# EAGLE library part CM8870C (library california-micro-devices)
CMOS Integrated DTMF Receiver cm8870.pdf
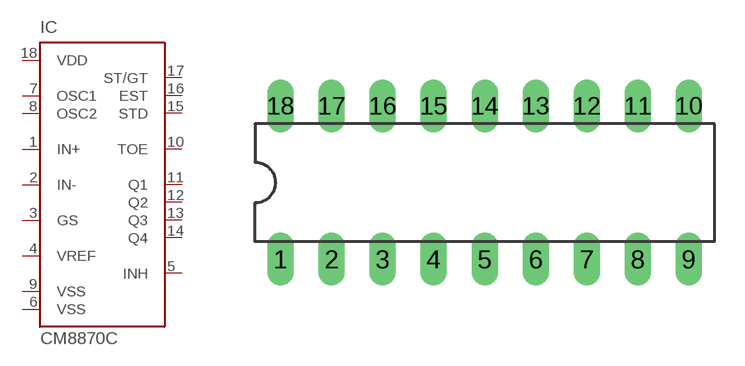
[diagram p0: symbol with the pads of DIL18; footprint DIL18]

Designator prefix IC

## CM8870CP (OC_FARNELL: unknown; OC_NEWARK: unknown)  [DIL18]
1  IN+  in
2  IN-  in
3  GS  in
4  VREF  out
5  INH  in
6  VSS  pwr
7  OSC1  in
8  OSC2
9  VSS  pwr
10  TOE  in
11  Q1  out
12  Q2  out
13  Q3  out
14  Q4  out
15  STD  in
16  EST  in
17  ST/GT
18  VDD  pwr

## Footprint DIL18 (pad centres in mm)
Dual In Line Package
drill 0.813 long: 1 -10.16,-3.81; 2 -7.62,-3.81; 3 -5.08,-3.81; 4 -2.54,-3.81; 5 0,-3.81; 6 2.54,-3.81; 7 5.08,-3.81; 8 7.62,-3.81; 9 10.16,-3.81; 10 10.16,3.81; 11 7.62,3.81; 12 5.08,3.81; 13 2.54,3.81; 14 0,3.81; 15 -2.54,3.81; 16 -5.08,3.81; 17 -7.62,3.81; 18 -10.16,3.81